# EAGLE library part PGA206U (library burr-brown)
High-Speed Programmable Gain Instrumentation Amplifier
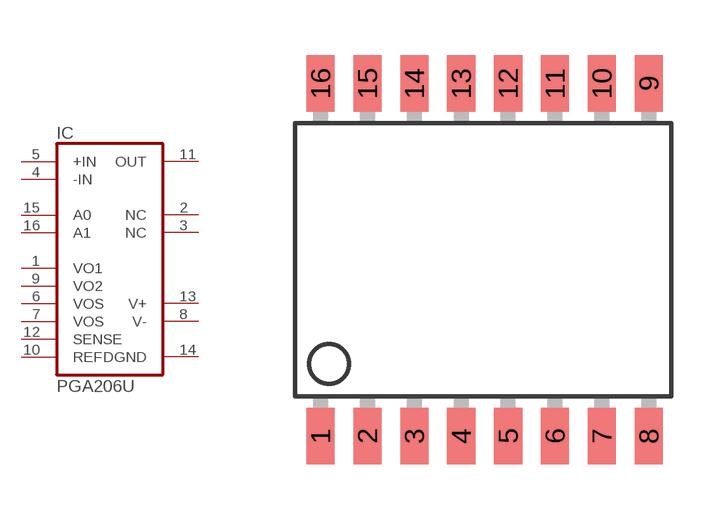
[diagram p174: symbol with the pads of SO16-1; footprint SO16-1]

Designator prefix IC

## PGA206U  [SO16-1]
1  VO1  pas
2  NC  nc
3  NC  nc
4  -IN  in
5  +IN  in
6  VOS  pas
7  VOS  pas
8  V-  pwr
9  VO2  pas
10  REF  pas
11  OUT  out
12  SENSE  pas
13  V+  pwr
14  DGND  pwr
15  A0  in
16  A1  in

## Footprint SO16-1 (pad centres in mm)
smd 0.762 x 1.524: 1 -4.445,-4.775; 2 -3.175,-4.775; 3 -1.905,-4.775; 4 -0.635,-4.775; 5 0.635,-4.775; 6 1.905,-4.775; 7 3.175,-4.775; 8 4.445,-4.775; 9 4.445,4.775; 10 3.175,4.775; 11 1.905,4.775; 12 0.635,4.775; 13 -0.635,4.775; 14 -1.905,4.775; 15 -3.175,4.775; 16 -4.445,4.775